# Altium footprint library SWITCH_KEY.PcbLib: 3 footprints
Each footprint in its own frame and in the unit in brackets; x right, y up, seen from the top. Pads: shape width x height; smd on the part's side, far side on the other; paste and mask are expansions set on the pad; w line width, h text height; cw(c..) or ccw(c..) is an arc to the next point about the centre after c.
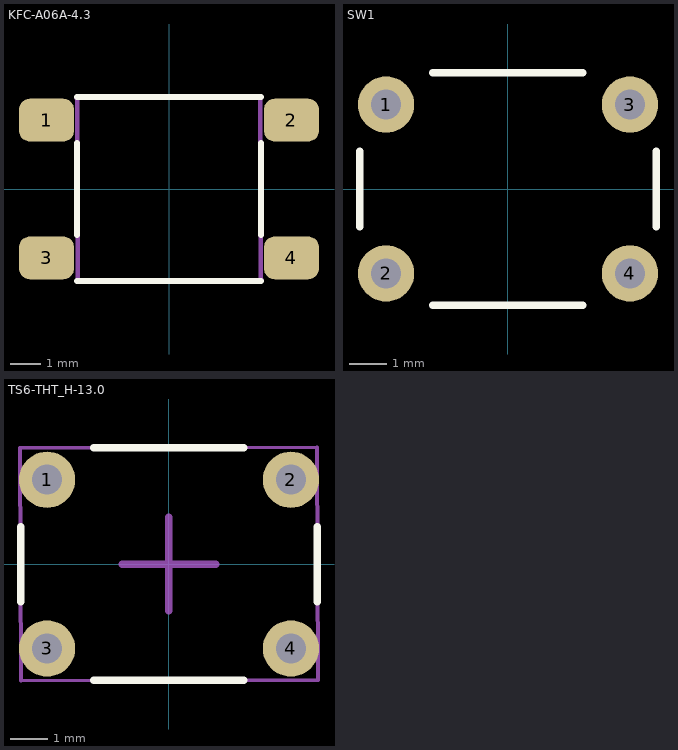
[diagram p0: the footprints below, top view; thin cyan lines are the x and y axes]

## KFC-A06A-4.3 [mm] "Кнопка тактовая SMD 6x6x4.3"
pads (4):
  rrect50% 1.8x1.4 smd: 1(-4,2.25) 2(4,2.25) 3(-4,-2.25) 4(4,-2.25)
Top Overlay:
  lines w0.2: -3,-3 3,-3 ; -3,-1.5 -3,1.5 ; -3,3 3,3 ; 3,-1.5 3,1.5
Top Assembly:
  lines w0.15: -3.024,2.98 3,3 ; -3,-3 3.024,-2.98 ; -3,3 -2.98,-3.024 ; 2.98,3.024 3,-3
3D body "User Library-PTS645SL43SMTR92-LFS.STEP": height 4.35, standoff 0.05, extent -4.5,-3 4.5,3

## SW1 [mm]
height 22
pads (4):
  round 1.5 hole 0.8: 1(-3.25,2.25) 2(-3.25,-2.25) 3(3.25,2.25) 4(3.25,-2.25)
Top Overlay:
  lines w0.2: -3.96,-1 -3.96,1 ; -2,-3.1 2,-3.1 ; -2,3.1 2,3.1 ; 3.96,-1 3.96,1
3D body "User Library-Tactile switch 6x6x9_5mm.STEP": height 9.56, standoff -3.21, extent -3.96,-3.1 3.96,3.1

## TS6-THT_H-13.0 [mm] "TS6-THT_H-13.0"
height 22
pads (4):
  round 1.5 hole 0.8: 1(-3.25,2.25) 2(3.25,2.25) 3(-3.25,-2.25) 4(3.25,-2.25)
Top Overlay:
  lines w0.2: -3.96,-1 -3.96,1 ; -2,-3.1 2,-3.1 ; -2,3.1 2,3.1 ; 3.96,-1 3.96,1
Top Assembly:
  lines w0.1: -3.97,3.093 3.95,3.12 3.97,-3.087 -3.95,-3.113 -3.97,3.093
Top Component Outline:
  lines w0.2: -1.25,0 1.25,0 ; 0,-1.25 0,1.25
3D body "TS6-THT_H-13.0.step": height 13, standoff -3.5, extent -3.95,-3 3.95,3